# Altium footprint library Sockets.PcbLib: 1 footprints
Each footprint in its own frame and in the unit in brackets; x right, y up, seen from the top. Pads: shape width x height; smd on the part's side, far side on the other; paste and mask are expansions set on the pad; w line width, h text height; cw(c..) or ccw(c..) is an arc to the next point about the centre after c.
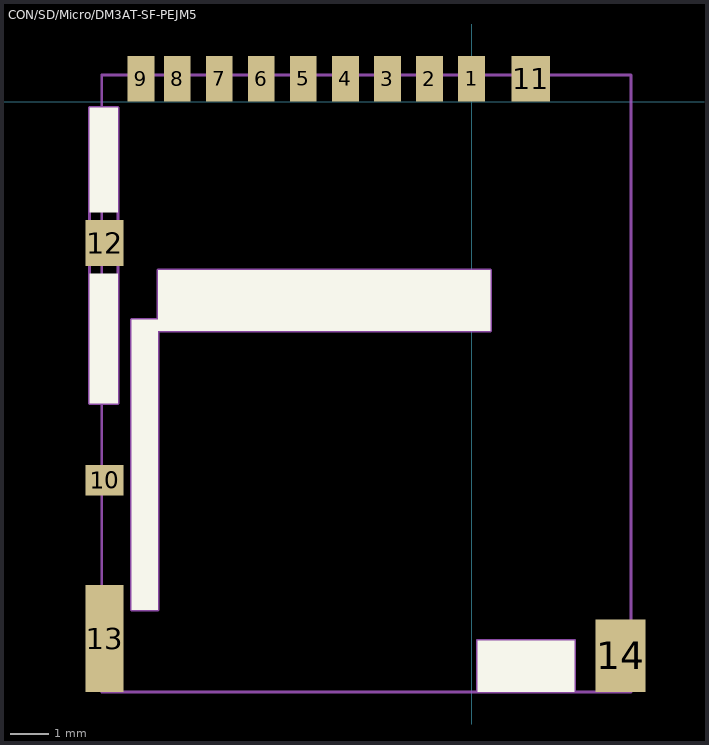
[diagram p0: the footprint, top view; thin cyan lines are the x and y axes]

## CON/SD/Micro/DM3AT-SF-PEJM5 [mm]
pads (14):
  rect 0.7x1.2 smd: 1(0,0.6) 2(-1.1,0.6) 3(-2.2,0.6) 4(-3.3,0.6) 5(-4.4,0.6) 6(-5.5,0.6) 7(-6.6,0.6) 8(-7.7,0.6) 9(-8.65,0.6)
  rect 1x0.8 smd: 10(-9.6,-9.9)
  rect 1x1.2 smd: 11(1.55,0.6) 12(-9.6,-3.7)
  rect 1x2.8 smd: 13(-9.6,-14.05)
  rect 1.3x1.9 smd: 14(3.9,-14.5)
Top Overlay:
  rectangle: -10,-7.9 -9.25,-4.5
  rectangle: -10,-2.896 -9.25,-0.15
  rectangle: -8.2,-6 0.5,-4.4
  rectangle: -8.9,-13.3 -8.2,-5.7
  rectangle: 0.15,-15.45 2.7,-14.1
Mechanical 1:
  lines w0.076: -10,-7.9 -9.25,-7.9 -9.25,-0.15 -10,-0.15 -10,-7.9 ; -9.675,-15.45 -9.675,0.7 4.175,0.7 4.175,-15.45 -9.675,-15.45 ; -8.9,-13.3 -8.9,-5.7 -8.2,-5.7 -8.2,-13.3 -8.9,-13.3 ; -8.2,-6 -8.2,-4.4 0.5,-4.4 0.5,-6 -8.2,-6 ; 0.15,-15.45 2.7,-15.45 2.7,-14.1 0.15,-14.1 0.15,-15.45
3D body "DM3AT-SF-PEJM5.stp": height 1.68, standoff 0, extent -9.675,-15.45 4.175,0.7